# Altium footprint library EstacionMetereologicaPCB.PcbLib: 8 footprints
Each footprint in its own frame and in the unit in brackets; x right, y up, seen from the top. Pads: shape width x height; smd on the part's side, far side on the other; paste and mask are expansions set on the pad; w line width, h text height; cw(c..) or ccw(c..) is an arc to the next point about the centre after c.
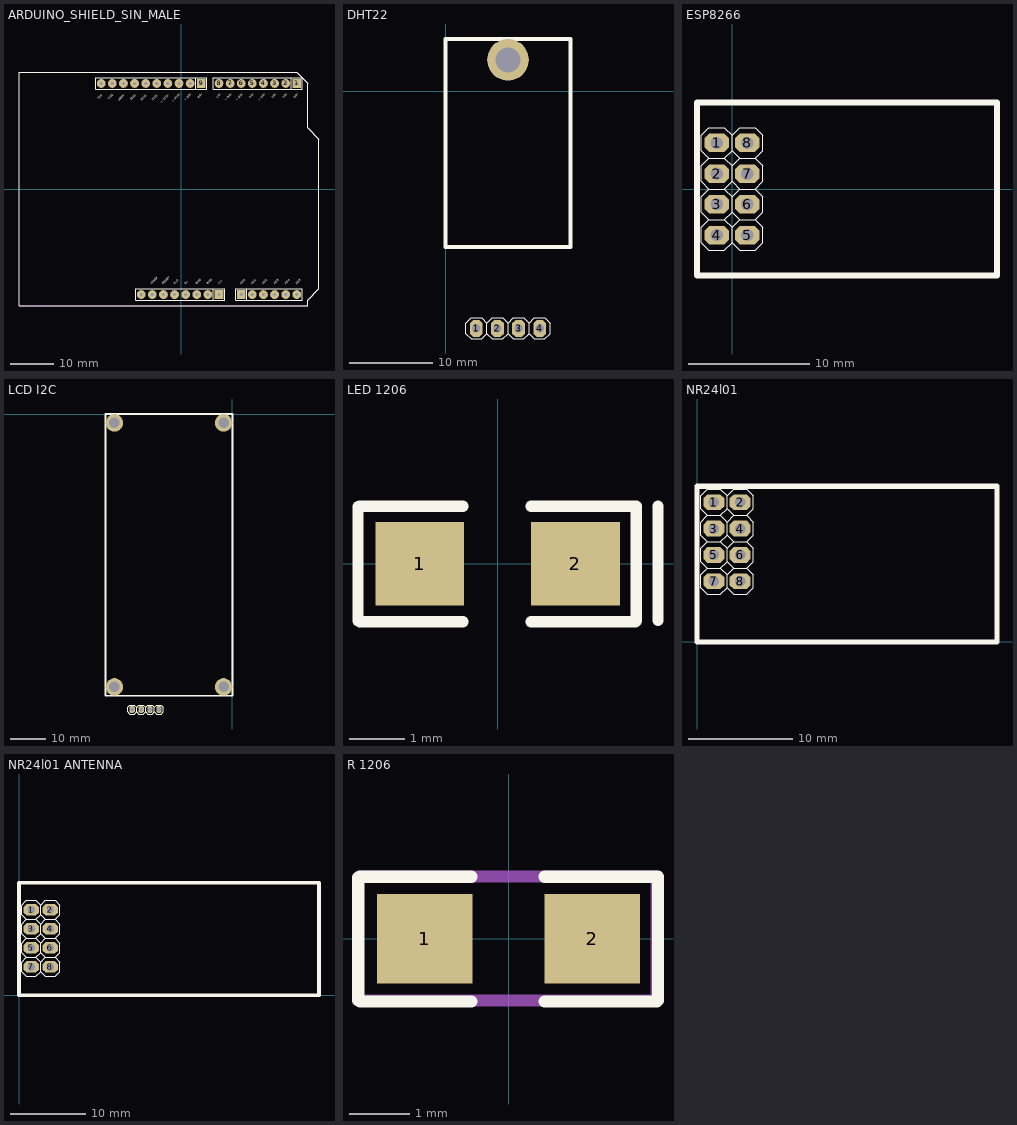
[diagram p0: the footprints below, top view; thin cyan lines are the x and y axes]

## ARDUINO_SHIELD_SIN_MALE [mm]
pads (32):
  rect 2x2 hole 0.762: 1(26.46,24.16) 9(4.616,24.16) 30(13.76,-24.1) 31(8.68,-24.1)
  round 2 hole 0.762: 2(23.92,24.16) 3(21.38,24.16) 4(18.84,24.16) 5(16.3,24.16) 6(13.76,24.16) 7(11.22,24.16) 8(8.68,24.16) 10(2.076,24.16) 11(-0.464,24.16) 12(-3.004,24.16) 13(-5.544,24.16) 14(-8.084,24.16) 15(-10.624,24.16) 16(-13.164,24.16) 17(-15.704,24.16) 18(-18.244,24.16) 25(26.46,-24.1) 26(23.92,-24.1) 27(21.38,-24.1) 28(18.84,-24.1) 29(16.3,-24.1) 32(6.14,-24.1) 33(3.6,-24.1) 34(1.06,-24.1) 35(-1.48,-24.1) 36(-4.02,-24.1) 37(-6.56,-24.1) 38(-9.1,-24.1)
Top Overlay:
  lines w0.127: -37.04,-26.64 -37.04,26.7
  lines w0.2: -37.04,-26.64 29,-26.64 29,-25.37 31.54,-22.83 31.54,11.46 29,14 29,24.16 26.46,26.7 -37.04,26.7 -37.04,-26.64
  lines w0.254: 7.41,-25.37 7.41,-22.83 ; 25.19,22.89 25.19,25.43 ; 3.346,22.89 -19.514,22.89 -19.514,25.43 3.346,25.43 ; 3.346,22.89 3.346,25.43 ; 3.346,22.89 5.886,22.89 5.886,25.43 3.346,25.43 ; 15.03,-25.37 12.49,-25.37 12.49,-24.1 12.49,-22.83 15.03,-22.83 ; 15.03,-25.37 15.03,-22.83 ; 15.03,-25.37 27.73,-25.37 27.73,-22.83 15.03,-22.83 ; -10.37,-25.37 -10.37,-22.83 9.95,-22.83 9.95,-25.37 -10.37,-25.37 ; 7.41,22.89 7.41,25.43 27.73,25.43 27.73,22.89 7.41,22.89
  text "AREF" at -13.164,21.694 h0.51
  text "GND" at -10.624,21.694 h0.51
  text "IO13" at -8.084,21.694 h0.51
  text "IO12" at -5.544,21.694 h0.51
  text "IO11 ~" at -3.004,21.694 h0.51
  text "IO10 ~" at -0.464,21.874 h0.51
  text "IO9 ~" at 2.076,21.874 h0.51
  text "IO8" at 4.616,21.874 h0.51
  text "IO7" at 8.807,21.948 h0.51
  text "IO6 ~" at 11.347,21.948 h0.51
  text "IO5 ~" at 13.887,21.948 h0.51
  text "IO4" at 16.427,21.948 h0.51
  text "IO3 ~" at 18.967,21.948 h0.51
  text "IO2" at 21.507,21.948 h0.51
  text "IO1" at 24.047,21.948 h0.51
  text "IO0" at 26.587,21.948 h0.51
  text "AD5" at 26.46,-21.888 h0.51
  text "AD4" at 23.92,-21.888 h0.51
  text "AD3" at 21.38,-21.888 h0.51
  text "AD2" at 18.84,-21.888 h0.51
  text "AD1" at 16.3,-21.888 h0.51
  text "AD0" at 13.76,-21.888 h0.51
  text "Vin" at 8.68,-21.888 h0.51
  text "GND" at 6.14,-21.888 h0.51
  text "GND" at 3.6,-21.888 h0.51
  text "5v" at 1.06,-21.888 h0.51
  text "3v3" at -1.48,-21.888 h0.51
  text "RESET" at -4.02,-21.888 h0.51
  text "IOREF" at -6.687,-21.888 h0.51
  text "SDA" at -15.704,21.821 h0.51
  text "SCL" at -18.244,21.694 h0.51
Mechanical 1:
  lines w0.127: -37.04,-26.64 29,-26.64 29,-25.37 31.54,-22.83 31.54,11.46 29,14 29,24.16 26.46,26.7 -37.04,26.7
3D body: height 8.15, standoff -2.83, extent 22.632,-25.354 27.712,-22.814
3D body: height 8.15, standoff -2.83, extent 17.552,-25.354 22.632,-22.814
3D body: height 8.15, standoff -2.83, extent 12.472,-25.354 17.552,-22.814
3D body: height 8.15, standoff -2.83, extent 4.852,-25.354 9.932,-22.814
3D body: height 8.15, standoff -2.83, extent -0.228,-25.354 4.852,-22.814
3D body: height 8.15, standoff -2.83, extent -5.308,-25.354 -0.228,-22.814
3D body: height 8.15, standoff -2.83, extent -10.388,-25.354 -5.308,-22.814
3D body: height 8.15, standoff -2.83, extent 22.632,22.906 27.712,25.446
3D body: height 8.15, standoff -2.83, extent 17.552,22.906 22.632,25.446
3D body: height 8.15, standoff -2.83, extent 12.472,22.906 17.552,25.446
3D body: height 8.15, standoff -2.83, extent 7.392,22.906 12.472,25.446
3D body: height 8.15, standoff -2.83, extent 0.788,22.906 5.868,25.446
3D body: height 8.15, standoff -2.83, extent -4.292,22.906 0.788,25.446
3D body: height 8.15, standoff -2.83, extent -9.372,22.906 -4.292,25.446
3D body: height 8.15, standoff -2.83, extent -14.452,22.906 -9.372,25.446
3D body: height 8.15, standoff -2.83, extent -19.532,22.906 -14.452,25.446

## DHT22 [mm]
pads (5):
  oct 1.524x2.032 hole 1.016: 1(3.69,-28.5) 2(6.23,-28.5) 3(8.77,-28.5) 4(11.31,-28.5)
  round 5 hole 3: ""(7.5,3.8)
Top Overlay:
  lines w0.1: 3.055,-27.23 2.42,-27.865 2.42,-29.135 3.055,-29.77 4.325,-29.77 4.96,-29.135 ; 3.055,-27.23 4.325,-27.23 ; 3.055,-27.23 4.325,-27.23 ; 4.325,-27.23 4.96,-27.865 ; 4.96,-29.135 5.595,-29.77 6.865,-29.77 7.5,-29.135 ; 4.96,-29.135 4.96,-27.865 ; 4.96,-29.135 4.96,-27.865 ; 4.96,-29.135 4.96,-27.865 ; 4.96,-29.135 4.96,-27.865 ; 4.96,-27.865 5.595,-27.23 ; 5.595,-27.23 6.865,-27.23 ; 5.595,-27.23 6.865,-27.23 ; 6.865,-27.23 7.5,-27.865 ; 7.5,-29.135 8.135,-29.77 9.405,-29.77 10.04,-29.135 ; 7.5,-29.135 7.5,-27.865 ; 7.5,-29.135 7.5,-27.865 ; 7.5,-29.135 7.5,-27.865 ; 7.5,-29.135 7.5,-27.865 ; 7.5,-27.865 8.135,-27.23 ; 8.135,-27.23 9.405,-27.23 ; 8.135,-27.23 9.405,-27.23 ; 9.405,-27.23 10.04,-27.865 ; 10.04,-29.135 10.675,-29.77 11.945,-29.77 12.58,-29.135 ; 10.04,-29.135 10.04,-27.865 ; 10.04,-29.135 10.04,-27.865 ; 10.04,-29.135 10.04,-27.865 ; 10.04,-29.135 10.04,-27.865 ; 10.04,-27.865 10.675,-27.23 ; 10.675,-27.23 11.945,-27.23 ; 10.675,-27.23 11.945,-27.23 ; 11.945,-27.23 12.58,-27.865 ; 12.58,-29.135 12.58,-27.865 ; 12.58,-29.135 12.58,-27.865 ; 12.58,-29.135 12.58,-27.865
  lines w0.508: 0,-18.7 0,6.3 15,6.3 15,-18.7 0,-18.7
Mechanical 1:
  region: 11.564,-28.246 11.056,-28.246 11.056,-28.754 11.564,-28.754
  region: 9.024,-28.246 8.516,-28.246 8.516,-28.754 9.024,-28.754
  region: 6.484,-28.246 5.976,-28.246 5.976,-28.754 6.484,-28.754
  region: 3.944,-28.246 3.436,-28.246 3.436,-28.754 3.944,-28.754
3D body: height 3.79, standoff -1.91, extent 2.295,-28.637 12.705,-18.577

## ESP8266 [mil]
pads (8):
  oct 80x60 hole 40: 1(-50,150) 2(-50,50) 3(-50,-50) 4(-50,-150) 5(50,-150) 6(50,-50) 7(50,50) 8(50,150)
Top Overlay:
  lines w3.94: -75,-100 -100,-125 -100,-175 -75,-200 -25,-200 0,-175 ; -75,-100 -100,-75 -100,-25 -75,0 ; -75,-100 -25,-100 ; -75,0 -100,25 -100,75 -75,100 ; -75,0 -25,0 ; -75,0 -25,0 ; -75,100 -25,100 ; -75,100 -25,100 ; -75,100 -100,125 -100,175 -75,200 -25,200 0,175 ; -75,100 -25,100 ; -25,-100 0,-125 ; -25,-100 0,-75 ; -25,0 0,25 ; -25,0 0,-25 ; -25,100 0,125 ; -25,100 0,75 ; 0,-175 0,-125 ; 0,-175 0,-125 ; 0,-175 25,-200 75,-200 100,-175 100,-125 75,-100 ; 0,-125 25,-100 ; 0,-75 0,-25 ; 0,-75 25,-100 ; 0,-75 0,-25 ; 0,-25 25,0 ; 0,25 0,75 ; 0,25 0,75 ; 0,25 25,0 ; 0,75 25,100 ; 0,125 0,175 ; 0,125 25,100 ; 0,125 0,175 ; 0,175 25,200 75,200 100,175 100,125 75,100 ; 25,-100 75,-100 ; 25,0 75,0 ; 25,0 75,0 ; 25,100 75,100 ; 25,100 75,100 ; 25,100 75,100 ; 75,-100 100,-75 100,-25 75,0 ; 75,0 100,25 100,75 75,100
  lines w20: -114,-281.5 -114,0 -114,281.5 862.38,281.5 862.38,-281.5 -114,-281.5
Mechanical 1:
  region: -40,140 -40,160 -60,160 -60,140
  region: -40,40 -40,60 -60,60 -60,40
  region: -40,-160 -40,-140 -60,-140 -60,-160
  region: -40,-60 -40,-40 -60,-40 -60,-60
  region: 60,140 60,160 40,160 40,140
  region: 60,40 60,60 40,60 40,40
  region: 60,-160 60,-140 40,-140 40,-160
  region: 60,-60 60,-40 40,-40 40,-60
3D body: height 334.65, standoff -125.98, extent -101,-204.92 -2.57,204.92
3D body: height 334.65, standoff -125.98, extent -1,-204.92 97.43,204.92

## LCD I2C [mm]
pads (8):
  oct 1.524x2.032 hole 1.016: 1(-28.47,-83.924) 2(-25.93,-83.924) 3(-23.39,-83.924) 4(-20.85,-83.924)
  round 5 hole 3: ""(-33.5,-77.5) ""(-33.5,-2.5) ""(-2.5,-77.5) ""(-2.5,-2.5)
Top Overlay:
  lines w0.1: -29.105,-82.654 -29.74,-83.289 -29.74,-84.559 -29.105,-85.194 -27.835,-85.194 -27.2,-84.559 ; -29.105,-82.654 -27.835,-82.654 ; -29.105,-82.654 -27.835,-82.654 ; -27.835,-82.654 -27.2,-83.289 ; -27.2,-84.559 -26.565,-85.194 -25.295,-85.194 -24.66,-84.559 ; -27.2,-84.559 -27.2,-83.289 ; -27.2,-84.559 -27.2,-83.289 ; -27.2,-84.559 -27.2,-83.289 ; -27.2,-84.559 -27.2,-83.289 ; -27.2,-83.289 -26.565,-82.654 ; -26.565,-82.654 -25.295,-82.654 ; -26.565,-82.654 -25.295,-82.654 ; -25.295,-82.654 -24.66,-83.289 ; -24.66,-84.559 -24.025,-85.194 -22.755,-85.194 -22.12,-84.559 ; -24.66,-84.559 -24.66,-83.289 ; -24.66,-84.559 -24.66,-83.289 ; -24.66,-84.559 -24.66,-83.289 ; -24.66,-84.559 -24.66,-83.289 ; -24.66,-83.289 -24.025,-82.654 ; -24.025,-82.654 -22.755,-82.654 ; -24.025,-82.654 -22.755,-82.654 ; -22.755,-82.654 -22.12,-83.289 ; -22.12,-84.559 -21.485,-85.194 -20.215,-85.194 -19.58,-84.559 ; -22.12,-84.559 -22.12,-83.289 ; -22.12,-84.559 -22.12,-83.289 ; -22.12,-84.559 -22.12,-83.289 ; -22.12,-84.559 -22.12,-83.289 ; -22.12,-83.289 -21.485,-82.654 ; -21.485,-82.654 -20.215,-82.654 ; -21.485,-82.654 -20.215,-82.654 ; -20.215,-82.654 -19.58,-83.289 ; -19.58,-84.559 -19.58,-83.289 ; -19.58,-84.559 -19.58,-83.289 ; -19.58,-84.559 -19.58,-83.289
  lines w0.508: -36,-80 0,-80 0,0 -36,0 -36,-80
Mechanical 1:
  region: -20.596,-83.67 -21.104,-83.67 -21.104,-84.178 -20.596,-84.178
  region: -23.136,-83.67 -23.644,-83.67 -23.644,-84.178 -23.136,-84.178
  region: -25.676,-83.67 -26.184,-83.67 -26.184,-84.178 -25.676,-84.178
  region: -28.216,-83.67 -28.724,-83.67 -28.724,-84.178 -28.216,-84.178
3D body: height 3.79, standoff -1.91, extent -29.865,-84.061 -19.455,-74.001

## LED 1206 [mm]
height 1.016
pads (2):
  rect 1.6x1.5 smd: 1(-1.4,0) 2(1.4,0)
Top Overlay:
  lines w0.203: -2.511,-1.032 -2.511,1.023 ; -2.48,-1.048 -0.621,-1.048 ; -2.48,1.035 -0.621,1.035 ; 0.601,-1.048 2.48,-1.048 ; 0.601,1.035 2.497,1.035 ; 2.497,-1.032 2.497,1.023 ; 2.887,-1.022 2.887,1.033
3D body: height 1.1, standoff 0, extent -1.606,-0.801 1.594,0.799

## NR24l01 [mil]
pads (8):
  oct 80x60 hole 40: 1(64,530) 2(164,530) 3(64,430) 4(164,430) 5(64,330) 6(164,330) 7(64,230) 8(164,230)
Top Overlay:
  lines w3.94: 39,280 14,255 14,205 39,180 89,180 114,205 ; 39,280 14,305 14,355 39,380 ; 39,280 89,280 ; 39,380 14,405 14,455 39,480 ; 39,380 89,380 ; 39,380 89,380 ; 39,480 89,480 ; 39,480 89,480 ; 39,480 14,505 14,555 39,580 89,580 114,555 ; 39,480 89,480 ; 89,280 114,255 ; 89,280 114,305 ; 89,380 114,405 ; 89,380 114,355 ; 89,480 114,505 ; 89,480 114,455 ; 114,205 114,255 ; 114,205 114,255 ; 114,205 139,180 189,180 214,205 214,255 189,280 ; 114,255 139,280 ; 114,305 114,355 ; 114,305 139,280 ; 114,305 114,355 ; 114,355 139,380 ; 114,405 114,455 ; 114,405 114,455 ; 114,405 139,380 ; 114,455 139,480 ; 114,505 114,555 ; 114,505 139,480 ; 114,505 114,555 ; 114,555 139,580 189,580 214,555 214,505 189,480 ; 139,280 189,280 ; 139,380 189,380 ; 139,380 189,380 ; 139,480 189,480 ; 139,480 189,480 ; 139,480 189,480 ; 189,280 214,305 214,355 189,380 ; 189,380 214,405 214,455 189,480
  lines w20: 0,590.55 1139,590.55 1139,0 0,0 0,310 0,591.5
Mechanical 1:
  region: 74,520 74,540 54,540 54,520
  region: 74,420 74,440 54,440 54,420
  region: 74,220 74,240 54,240 54,220
  region: 74,320 74,340 54,340 54,320
  region: 174,520 174,540 154,540 154,520
  region: 174,420 174,440 154,440 154,420
  region: 174,220 174,240 154,240 154,220
  region: 174,320 174,340 154,340 154,320
3D body: height 334.65, standoff -125.98, extent 13,175.08 111.43,584.92
3D body: height 334.65, standoff -125.98, extent 113,175.08 211.43,584.92
3D body: height 590.55, standoff 104.93, extent 0,-4 1141.73,586.55

## NR24l01 ANTENNA [mil]
pads (8):
  oct 80x60 hole 40: 1(64,449) 2(164,449) 3(64,349) 4(164,349) 5(64,249) 6(164,249) 7(64,149) 8(164,149)
Top Overlay:
  lines w3.94: 39,199 14,174 14,124 39,99 89,99 114,124 ; 39,199 14,224 14,274 39,299 ; 39,199 89,199 ; 39,299 14,324 14,374 39,399 ; 39,299 89,299 ; 39,299 89,299 ; 39,399 89,399 ; 39,399 89,399 ; 39,399 14,424 14,474 39,499 89,499 114,474 ; 39,399 89,399 ; 89,199 114,174 ; 89,199 114,224 ; 89,299 114,324 ; 89,299 114,274 ; 89,399 114,424 ; 89,399 114,374 ; 114,124 114,174 ; 114,124 114,174 ; 114,124 139,99 189,99 214,124 214,174 189,199 ; 114,174 139,199 ; 114,224 114,274 ; 114,224 139,199 ; 114,224 114,274 ; 114,274 139,299 ; 114,324 114,374 ; 114,324 114,374 ; 114,324 139,299 ; 114,374 139,399 ; 114,424 114,474 ; 114,424 139,399 ; 114,424 114,474 ; 114,474 139,499 189,499 214,474 214,424 189,399 ; 139,199 189,199 ; 139,299 189,299 ; 139,299 189,299 ; 139,399 189,399 ; 139,399 189,399 ; 139,399 189,399 ; 189,199 214,224 214,274 189,299 ; 189,299 214,324 214,374 189,399
  lines w20: 0,590.55 1574.8,590.55 1574.8,0 0,0 0,310 0,591.5
Mechanical 1:
  region: 74,439 74,459 54,459 54,439
  region: 74,339 74,359 54,359 54,339
  region: 74,139 74,159 54,159 54,139
  region: 74,239 74,259 54,259 54,239
  region: 174,439 174,459 154,459 154,439
  region: 174,339 174,359 154,359 154,339
  region: 174,139 174,159 154,159 154,139
  region: 174,239 174,259 154,259 154,239
3D body: height 334.65, standoff -125.98, extent 13,94.08 111.43,503.92
3D body: height 334.65, standoff -125.98, extent 113,94.08 211.43,503.92
3D body: height 590.55, standoff 104.93, extent 0,-4 1141.73,586.55
3D body: height 452.76, standoff 433.07, extent 0,0 1574.81,590.55
3D body: height 3922.31, standoff 501.05, extent 1769.85,115 3074.77,483.71

## R 1206 [mm]
height 1.016
pads (2):
  rect 1.6x1.5 smd: 1(-1.4,0) 2(1.4,0)
Top Overlay:
  lines w0.203: -2.511,-1.032 -2.511,1.023 ; -2.48,-1.048 -0.621,-1.048 ; -2.48,1.035 -0.621,1.035 ; 0.601,-1.048 2.48,-1.048 ; 0.601,1.035 2.497,1.035 ; 2.497,-1.032 2.497,1.023
Mechanical 29:
  lines w0.2: -2.516,-1.011 -2.496,-1.031 2.474,-1.031 2.474,1.039 -2.496,1.039 -2.516,1.019 -2.516,-1.011
  text ".Designator" at -2.126,-0.441 h1
3D body: height 1, standoff 0, extent -1.596,-0.801 1.604,0.799